# EAGLE library part LM1458 (library BME_Components)
Dual Operational Amplifier, 8-pin MDIP
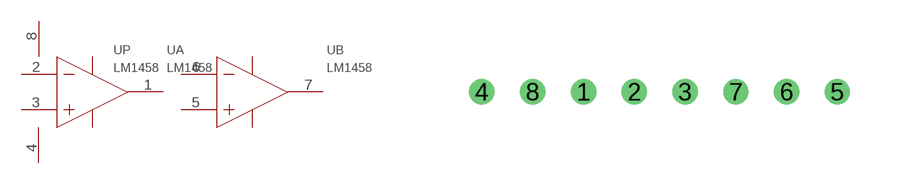
[diagram p13: symbol with the pads of LM1458_N08E; footprint LM1458_N08E]

Designator prefix U; gates P=LM1458_P A=LM1458_A B=LM1458_B

## LM1458LM1458_LM1458_N08E (CODE_JEDEC: MS-001-BA; COMPTYPE: Amplifiers; DATASHEETVERSION: Aug-2003; MANUFACTURER: National Semiconductor; PACKAGEDESCRIPTION: MDIP, .365 x .250 x .130in, 8 Lead, .100in Pitch; PACKAGEREFERENCE: N08E; PACKAGETOPMARKING: NSUZXYTTE#*LM1458N; PACKAGEVERSION: revG, May-2006; PINCOUNT: 8; POWERWISE: N; ROHS: N)  [LM1458_N08E]
1  A:OUTA  out
2  A:INA-  in
3  A:INA+  in
4  P:V-  pwr
5  B:INB+  in
6  B:INB-  in
7  B:OUTB  out
8  P:V+  pwr

## Footprint LM1458_N08E (pad centres in mm)
drill 0.127 pad 0.254 round: 1 2.54,0; 2 3.81,0; 3 5.08,0; 4 0,0; 5 8.89,0; 6 7.62,0; 7 6.35,0; 8 1.27,0